# Altium schematic symbol library Gen_Devices.schlib: 226 symbols (part 1 of 3)
Pins are listed as number, name and electrical type; pins without a type are passive.

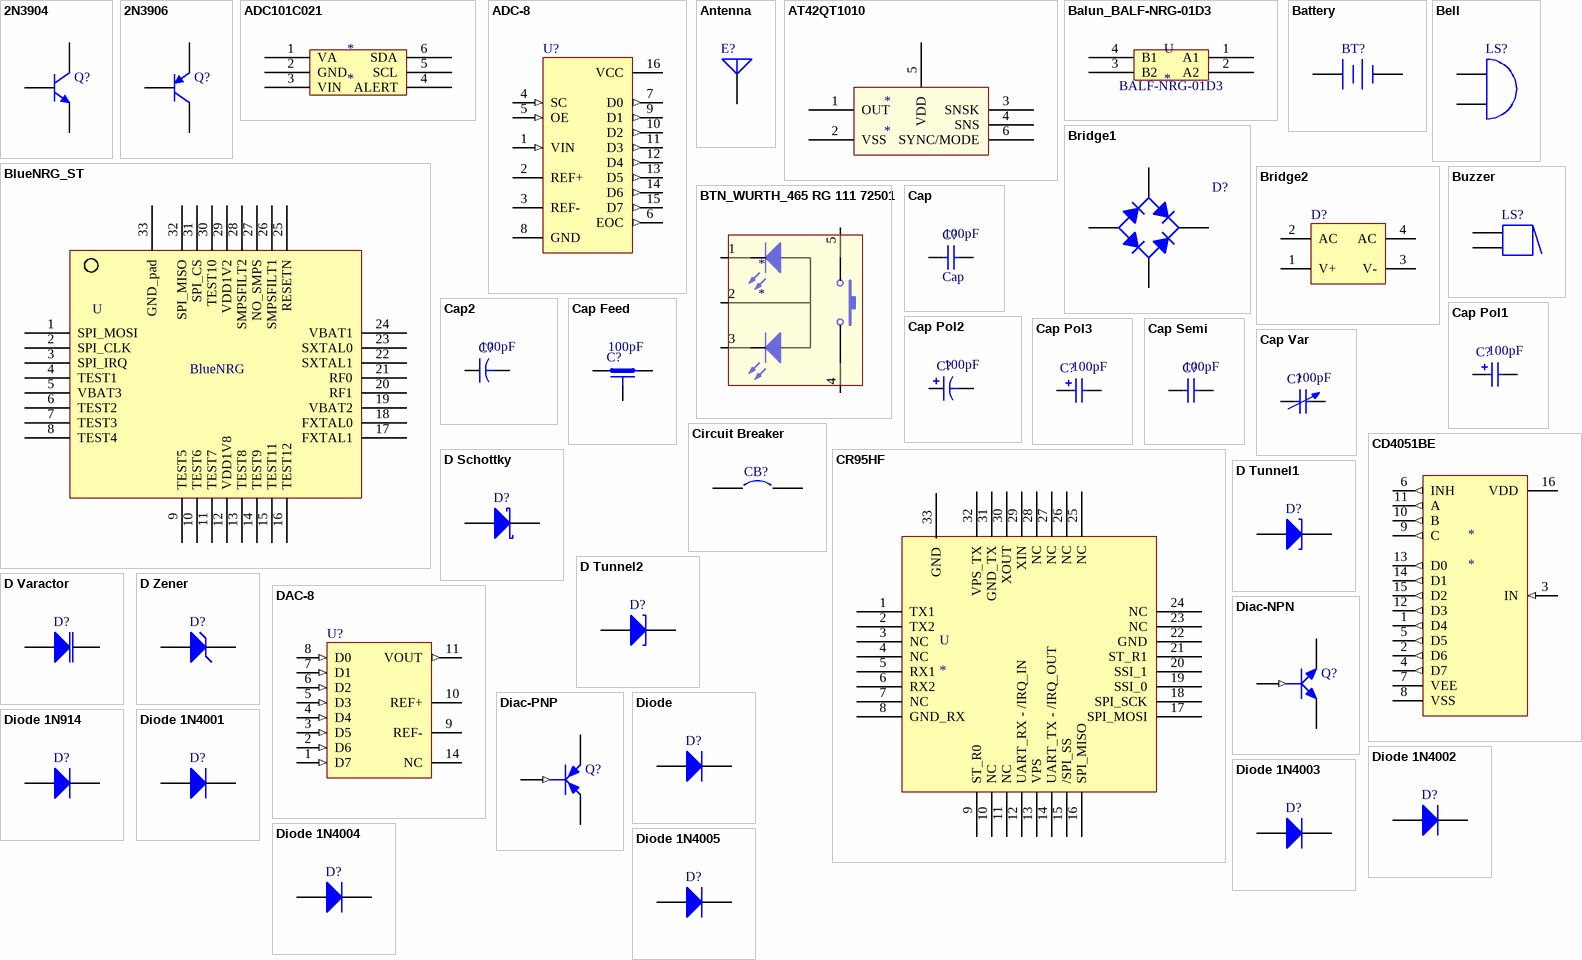
[diagram p0: symbols 2N3904 to Diode 1N4005]

## 2N3904
designator Q?
NPN General Purpose Amplifier; Published: 8-Jun-2000; LatestRevisionDate: 15-Jan-2003; LatestRevisionNote: PCB Footprint 'BCY-W3/D4.7' replaced; DatasheetVersion: 1997; PackageVersion: Sep-1998; PackageReference: TO-92A; Publisher: Altium Limited; PackageDescription: TO, Flat Index; 3 In-Line, Axial Leads; Body Dia. 4.5mm; Leads 0.51 x 0.48 mm (max); ComponentLink1Description: Manufacturer Link; ComponentLink1URL: http://www.fairchildsemi.com/; ComponentLink2Description: Datasheet; ComponentLink2URL: http://www.fairchildsemi.com/ds/2N%2F2N3904.pdf
footprint TO-92A (TO, Flat Index; 3 In-Line, Axial Leads; Body Dia. 4.5mm; Leads 0.51 x 0.48 mm (max))
simulation model 2N3904 (NPN)
signal-integrity model 2N3904
pins: 1 E, 2 B, 3 C

## 2N3906
designator Q?
PNP General Purpose Amplifier; Published: 8-Jun-2000; LatestRevisionDate: 15-Jan-2003; LatestRevisionNote: PCB Footprint 'BCY-W3/D4.7' replaced; DatasheetVersion: 1997; PackageVersion: Sep-1998; PackageReference: TO-92A; Publisher: Altium Limited; PackageDescription: TO, Flat Index; 3 In-Line, Axial Leads; Body Dia. 4.5mm; Leads 0.51 x 0.48 mm (max); ComponentLink1Description: Manufacturer Link; ComponentLink1URL: http://www.fairchildsemi.com/; ComponentLink2Description: Datasheet; ComponentLink2URL: http://www.fairchildsemi.com/ds/2N%2F2N3906.pdf
footprint TO-92A (TO, Flat Index; 3 In-Line, Axial Leads; Body Dia. 4.5mm; Leads 0.51 x 0.48 mm (max))
simulation model 2N3906 (PNP)
signal-integrity model 2N3906
pins: 1 E, 2 B, 3 C

## ADC101C021
designator *
footprint SOT23-6_N (SOT23, 6-Leads, Body 2.9x1.6mm, Pitch 0.95mm, Lead Span 2.7mm, IPC Medium Density)
pins: 1 VA, 2 GND, 3 VIN, 4 ALERT, 5 SCL, 6 SDA

## ADC-8
designator U?
Generic 8-Bit A/D Converter; Published: 8-Jun-2000; LatestRevisionDate: 29-May-2009; LatestRevisionNote: IPC-7351 Footprint Added.; PackageVersion: Mar-2002; PackageReference: SOT403-1; Publisher: Altium Limited; PackageDescription: 16-Pin Thin Small Outline Package 0.65 mm Pitch; Code_JEDEC: MO-153
footprint SOT403-1_N (TSOP, 16-Leads, Body 5x4.4mm, Pitch 0.65mm, IPC Medium Density)
footprint SOT403-1_L (TSOP, 16-Leads, Body 5x4.4mm, Pitch 0.65mm, IPC High Density)
footprint SOT403-1_M (TSOP, 16-Leads, Body 5x4.4mm, Pitch 0.65mm, IPC Low Density)
simulation model ADC8 (SIMCODE)
pins: 1 VIN (in), 2 REF+, 3 REF-, 4 SC (in), 5 OE (in), 6 EOC (out), 7 D0 (out), 8 GND (power), 9 D1 (out), 10 D2 (out), 11 D3 (out), 12 D4 (out), 13 D5 (out), 14 D6 (out), 15 D7 (out), 16 VCC (power)

## Antenna
designator E?
Generic Antenna; Published: 24-Mar-1999; LatestRevisionDate: 17-Jul-2002; LatestRevisionNote: Re-released for DXP Platform.; PackageReference: PIN1; Publisher: Altium Limited
footprint PIN1 (Generic Antenna; 1 Lead)
footprint ANT_ST_AN3359
pins: 1 A

## AT42QT1010
designator *
footprint SOT23-6_N (SOT23, 6-Leads, Body 2.9x1.6mm, Pitch 0.95mm, Lead Span 2.7mm, IPC Medium Density)
pins: 1 OUT, 2 VSS, 3 SNSK, 4 SNS, 5 VDD, 6 SYNC/MODE

## Balun_BALF-NRG-01D3
designator U
Balun; Ref.Manufacturer: BALF-NRG-01D3; Manufacturer: STMicroelectronics; Supplier: *; Price: *; Value: *; Ref.Supplier: *
footprint Flip-Chip 4 bump
pins: 1 A1, 2 A2, 3 B2, 4 B1

## Battery
designator BT?
Multicell Battery; Published: 24-Mar-1999; LatestRevisionDate: 17-Jul-2002; LatestRevisionNote: Re-released for DXP Platform.; PackageReference: BAT-2; Publisher: Altium Limited; PackageDescription: Battery; 2 Leads
footprint BAT-2 (Battery; 2 Leads)
pins: 1 +, 2 -

## Bell
designator LS?
Electrical Bell; Published: 24-Mar-1999; LatestRevisionDate: 17-Jul-2002; LatestRevisionNote: Re-released for DXP Platform.; PackageReference: PIN2; Publisher: Altium Limited
footprint PIN2 (Electrical Bell; 2 Leads)
pins: 1 A, 2 B

## BlueNRG_ST
designator U  (value not drawn)
BLE Transmitter; Manufacturer: STMicroelectronic; Ref.Manufacturer: BlueNRG; Supplier: *; Ref.Supplier: *; Price: *; Value: *
footprint QFN32_5x5
pins: 1 SPI_MOSI, 2 SPI_CLK, 3 SPI_IRQ, 4 TEST1, 5 VBAT3, 6 TEST2, 7 TEST3, 8 TEST4, 9 TEST5, 10 TEST6, 11 TEST7, 12 VDD1V8, 13 TEST8, 14 TEST9, 15 TEST11, 16 TEST12, 17 FXTAL1, 18 FXTAL0, 19 VBAT2, 20 RF1, 21 RF0, 22 SXTAL1, 23 SXTAL0, 24 VBAT1, 25 RESETN, 26 SMPSFILT1, 27 NO_SMPS, 28 SMPSFILT2, 29 VDD1V2, 30 TEST10, 31 SPI_CS, 32 SPI_MISO, 33 GND_pad

## Bridge1
designator D?
Full Wave Diode Bridge; Published: 8-Jun-2000; LatestRevisionDate: 29-May-2009; LatestRevisionNote: Sch pins A & K swapped.; DatasheetVersion: E2732B; PackageReference: D-38; Publisher: Altium Limited; PackageDescription: Bridge Rectifier; 4 Terminals; Body 9.4 x 9.4 mm (typ); Pitch 5.08 mm
footprint D-38 (Bridge Rectifier; 4 Terminals; Body 9.4 x 9.4 mm (typ); Pitch 5.08 mm)
simulation model BRIDGE (Spice Subcircuit)
pins: 1 K, 2 C, 3 A, 4 C

## Bridge2
designator D?
Diode Bridge; Published: 24-Mar-1999; LatestRevisionDate: 17-Jul-2002; LatestRevisionNote: Re-released for DXP Platform.; PackageReference: D-46_6A; Publisher: Altium Limited; PackageDescription: Bridge Rectifier; 4 Terminals; Body 16.8 x 16.8 mm (typ); Pitch 10.67 mm
footprint D-46_6A (Bridge Rectifier; 4 Terminals; Body 16.8 x 16.8 mm (typ); Pitch 10.67 mm)
simulation model BRIDGE (Spice Subcircuit)
pins: 1 V+, 2 AC, 3 V-, 4 AC

## BTN_WURTH_465 RG 111 72501
designator *
footprint BTN_WURTH_465 RG 111 72501
pins: 1 K, 2 A, 3 K, 4 2, 5 1

## Buzzer
designator LS?
Magnetic Transducer Buzzer; Published: 24-Mar-1999; LatestRevisionDate: 17-Dec-2003; LatestRevisionNote: Schematic revised, PCB Footprint replaced.; DatasheetVersion: 17-Dec-2003; PackageReference: ABSM-1574; Publisher: Altium Limited; PackageDescription: Magnetic Transducer Buzzer; ComponentLink1Description: Manufacturer Link; ComponentLink1URL: http://www.megastar.com/linecard/buzzmode/index.php
footprint ABSM-1574 (Magnetic Transducer Buzzer)
pins: 1, 1A, 2, 2A
1 alternate drawing of the same symbol

## Cap
designator C?  value 100pF
Capacitor; Price: *; Ref. Manufacturer: *; Ref. Supplier: *; Supplier: *; Manufacturer: *
simulation model CAP (Capacitor)
signal-integrity model Cap
footprint 0402[IMP]-CAP (Chip Resistor, Body 2.0x1.2mm, IPC Medium Density)
footprint 0603[IMP]-CAP (Chip Resistor, Body 2.0x1.2mm, IPC Medium Density)
footprint 0805[IMP]-CAP (Chip Resistor, Body 2.0x1.2mm, IPC Medium Density)
footprint 1206[IMP]-CAP (Chip Resistor, Body 2.0x1.2mm, IPC Medium Density)
pins: 1, 2

## Cap2
designator C?  value 100pF
Capacitor; Published: 23-Sep-2002; PackageReference: CAPR5-4X5; Publisher: Altium Limited; PackageDescription: Capacitor; 2 Leads
footprint CAPR5-4X5 (Capacitor; 2 Leads)
simulation model CAP (Capacitor)
signal-integrity model Cap
pins: 1, 2

## Cap Feed
designator C?  value 100pF
Feed-Through Capacitor; Note: Commonly used for bypassing high-frequency currents to chassis; Published: 24-Mar-1999; LatestRevisionDate: 17-Jul-2002; LatestRevisionNote: Re-released for DXP Platform.; PackageReference: VR4; Publisher: Altium Limited; PackageDescription: Variable Resistor, Thru-Hole; 3 Leads
footprint VR4 (Thru-Hole; 3 Leads)
signal-integrity model Cap Feed
pins: 1, 2, 3

## Cap Pol1
designator C?  value 100pF
Polarized Capacitor (Radial); Published: 8-Jun-2000; LatestRevisionDate: 17-Jul-2002; LatestRevisionNote: Re-released for DXP Platform.; PackageReference: RB7.6-15; Publisher: Altium Limited; PackageDescription: Polarized Capacitor (Radial); 2 Leads
footprint RB7.6-15 (Polarized Capacitor (Radial); 2 Leads)
simulation model CAP (Capacitor)
signal-integrity model Cap Pol
pins: 1, 2
1 alternate drawing of the same symbol

## Cap Pol2
designator C?  value 100pF
Polarized Capacitor (Axial); Published: 8-Jun-2000; LatestRevisionDate: 17-Jul-2002; LatestRevisionNote: Re-released for DXP Platform.; PackageReference: POLAR0.8; Publisher: Altium Limited; PackageDescription: Polarized Capacitor; 2 Leads
footprint POLAR0.8 (Polarized Capacitor; 2 Leads)
simulation model CAP (Capacitor)
signal-integrity model Cap Pol
pins: 1, 2
1 alternate drawing of the same symbol

## Cap Pol3
designator C?  value 100pF
Polarized Capacitor (Surface Mount); Published: 8-Jun-2000; LatestRevisionDate: 29-May-2009; LatestRevisionNote: IPC-7351 Footprint Added.; PackageReference: C0805; Publisher: Altium Limited; PackageDescription: Chip Capacitor
footprint C0805 (Chip Capacitor, Body 2.0x1.3mm, IPC High Density)
footprint 1812 (Chip Capacitor, Body 4.5x3.2mm, IPC High Density)
footprint 1825 (Chip Capacitor, Body 4.5x6.4mm, IPC High Density)
footprint C2225 (Chip Capacitor, Body 5.7x6.4mm, IPC High Density)
footprint 2220 (Chip Capacitor, Body 5.7x5.0mm, IPC High Density)
simulation model CAP (Capacitor)
signal-integrity model Cap Pol
pins: 1, 2
1 alternate drawing of the same symbol

## Cap Semi
designator C?  value 100pF
Capacitor (Semiconductor SIM Model); Published: 8-Jun-2000; LatestRevisionDate: 29-May-2009; LatestRevisionNote: IPC-7351 Footprint Added.; PackageReference: C1206; Publisher: Altium Limited; PackageDescription: Chip Capacitor
footprint C1206 (Chip Capacitor, Body 3.2x1.6mm, IPC High Density)
footprint 0402 (Chip Capacitor, Body 1.0x0.5mm, IPC High Density)
footprint C2512 (Chip Capacitor, Body 2.54x1.27mm, IPC High Density)
footprint 1608[0603] (Chip Capacitor, Body 1.6x0.8mm, IPC High Density)
footprint C1210 (Chip Capacitor, Body 3.2x2.5mm, IPC High Density)
simulation model CAP (Semiconductor Capacitor)
signal-integrity model Cap Semi
pins: 1, 2

## Cap Var
designator C?  value 100pF
Variable or Adjustable Capacitor; Published: 24-Mar-1999; LatestRevisionDate: 29-May-2009; LatestRevisionNote: IPC-7351 Footprint Added.; PackageReference: C1210; Publisher: Altium Limited; PackageDescription: Chip Capacitor 1210 Case Size; Code_JEITA: 1210; Code_IPC: CAPC3225
footprint C1210_N (Chip Capacitor, Body 3.2x2.5mm, IPC Medium Density)
footprint C1210_L (Chip Capacitor, Body 3.2x2.5mm, IPC High Density)
footprint C1210_M (Chip Capacitor, Body 3.2x2.5mm, IPC Low Density)
signal-integrity model Cap Var
pins: 1, 2

## CD4051BE
designator *
footprint DIP-16 (DIP; 16 Leads; Row Spacing 7.62 mm; Pitch 2.54 mm)
pins: 1 D4 (out), 2 D6 (out), 3 IN (in), 4 D7 (out), 5 D5 (out), 6 INH (out), 7 VEE (power), 8 VSS (power), 9 C (out), 10 B (out), 11 A (out), 12 D3 (out), 13 D0 (out), 14 D1 (out), 15 D2 (out), 16 VDD (power)

## Circuit Breaker
designator CB?
Circuit Breaker; Published: 24-Mar-1999; LatestRevisionDate: 17-Jul-2002; LatestRevisionNote: Re-released for DXP Platform.; PackageReference: SPST-2; Publisher: Altium Limited; PackageDescription: Switch; 2 Leads
footprint SPST-2 (Switch; 2 Leads)
pins: 1, 2

## CR95HF
designator U
Reader RFID; Manufacturer: ST; Ref. Manufacturer: CR95HF-VMD5T; Supplier: Rutronik; Price: 1.94€; Ref. Supplier: ICRFID1427
footprint VFQFPN-32lead
pins: 1 TX1, 2 TX2, 3 NC, 4 NC, 5 RX1, 6 RX2, 7 NC, 8 GND_RX, 9 ST_R0, 10 NC, 11 NC, 12 UART_RX - /IRQ_IN, 13 VPS, 14 UART_TX - /IRQ_OUT, 15 /SPI_SS, 16 SPI_MISO, 17 SPI_MOSI, 18 SPI_SCK, 19 SSI_0, 20 SSI_1, 21 ST_R1, 22 GND, 23 NC, 24 NC, 25 NC, 26 NC, 27 NC, 28 NC, 29 XIN, 30 XOUT, 31 GND_TX, 32 VPS_TX, 33 GND

## D Schottky
designator D?
Schottky Diode; Published: 8-Jun-2000; LatestRevisionDate: 17-Jul-2002; LatestRevisionNote: Re-released for DXP Platform.; PackageReference: SMB; Publisher: Altium Limited; PackageDescription: DO-214-AA/SMB; 2 C-Bend Leads; Body 5.3 x 3.6 mm, inc. leads (LxW); Code_JEDEC: DO-214-AA
footprint SMB (DO-214-AA/SMB; 2 C-Bend Leads; Body 5.3 x 3.6 mm, inc. leads (LxW))
simulation model SKYDIODE (Diode)
signal-integrity model D Schottky
pins: 1 A, 2 K

## D Tunnel1
designator D?
Tunnel Diode - RLC Model; Published: 8-Jun-2000; LatestRevisionDate: 17-Jul-2002; LatestRevisionNote: Re-released for DXP Platform.; PackageVersion: Feb-2002; PackageReference: 3.2X1.6X1.1; Publisher: Altium Limited; PackageDescription: SM LED; 2 Flat Leads
footprint 3.2X1.6X1.1 (SMT LED; 2 Flat Leads)
simulation model DTUNNEL1 (Spice Subcircuit)
signal-integrity model D Tunnel
pins: 1 A, 2 K

## D Tunnel2
designator D?
Tunnel Diode - Dependent Source Model; Published: 15-Apr-2002; LatestRevisionDate: 17-Jul-2002; LatestRevisionNote: Re-released for DXP Platform.; PackageReference: DIODE-0.4; Publisher: Altium Limited; PackageDescription: Diode, Thru-Hole; 2 Leads; 0.4 in Pin Spacing
footprint DIODE-0.4 (Diode, Thru-Hole; 2 Leads; 0.4 in Pin Spacing)
simulation model DTUNNEL2 (Spice Subcircuit)
signal-integrity model D Tunnel
pins: 1 A, 2 K

## D Varactor
designator D?
Variable Capacitance Diode; Note: Pin 2 is not connected and not drawn.; Published: 8-Jun-2000; LatestRevisionDate: 29-May-2009; LatestRevisionNote: IPC-7351 Footprint Added.; DatasheetVersion: Jan-1998; PackageVersion: 1996; PackageReference: SOT23A; Publisher: Altium Limited; PackageDescription: 3-Pin SOT-23 Package 0.95 mm Pitch, 2.3 mm Lead Span - Reverse Pinning; ComponentLink1Description: Manufacturer Link; ComponentLink1URL: http://www.zetex.com/
footprint SOT23_N (SOT23, 3-Leads, Body 2.9x1.3mm, Pitch 0.95mm, Lead Span 2.3mm - Reverse Pinning, IPC Medium Density)
footprint SOT23_L (SOT23, 3-Leads, Body 2.9x1.3mm, Pitch 0.95mm, Lead Span 2.3mm - Reverse Pinning, IPC High Density)
footprint SOT23_M (SOT23, 3-Leads, Body 2.9x1.3mm, Pitch 0.95mm, Lead Span 2.3mm - Reverse Pinning, IPC Low Density)
simulation model BBY31 (Diode)
signal-integrity model D Varactor
pins: 1 K, 3 A

## D Zener
designator D?
Zener Diode; Published: 8-Jun-2000; LatestRevisionDate: 17-Jul-2002; LatestRevisionNote: Re-released for DXP Platform.; PackageReference: DIODE-0.7; Publisher: Altium Limited; PackageDescription: Diode, Thru-Hole; 2 Leads; 0.7 in Pin Spacing
footprint DIODE-0.7 (Diode, Thru-Hole; 2 Leads; 0.7 in Pin Spacing)
simulation model ZENER (Diode)
signal-integrity model D Zener
footprint DIODE-0.4 (Diode, Thru-Hole; 2 Leads; 0.4 in Pin Spacing)
footprint DO-220AA (Chip Resistor, Body 2.0x1.2mm, IPC Medium Density)
pins: 1 A, 2 K

## DAC-8
designator U?
Generic 8-Bit D/A Converter; Published: 8-Jun-2000; LatestRevisionDate: 29-May-2009; LatestRevisionNote: IPC-7351 Footprint Added.; PackageVersion: Mar-2002; PackageReference: SOT402-1; Publisher: Altium Limited; PackageDescription: 14-Pin Thin Small Outline Package 0.65 mm Pitch; Code_JEDEC: MO-153
footprint SOT402-1_N (TSOP, 14-Leads, Body 5x4.4mm, Pitch 0.65mm, IPC Medium Density)
footprint SOT402-1_L (TSOP, 14-Leads, Body 5x4.4mm, Pitch 0.65mm, IPC High Density)
footprint SOT402-1_M (TSOP, 14-Leads, Body 5x4.4mm, Pitch 0.65mm, IPC Low Density)
simulation model DAC8 (SIMCODE)
pins: 1 D7 (in), 2 D6 (in), 3 D5 (in), 4 D4 (in), 5 D3 (in), 6 D2 (in), 7 D1 (in), 8 D0 (in), 9 REF-, 10 REF+, 11 VOUT (out), 12 GND (power) hidden to GND, 13 VCC (power) hidden to VCC, 14 NC

## Diac-NPN
designator Q?
DIAC; Published: 24-Mar-1999; LatestRevisionDate: 17-Jul-2002; LatestRevisionNote: Re-released for DXP Platform.; PackageReference: TO-262-AA; Publisher: Altium Limited; Code_JEDEC: TO-262-AA
footprint TO-262-AA (TO, Thru-Hole, Vertical, Heatsink Mounted; 3 In-Line Leads; Pitch 2.54 mm)
pins: 1 B (in), 2 C, 3 E

## Diac-PNP
designator Q?
DIAC; Published: 24-Mar-1999; LatestRevisionDate: 29-May-2009; LatestRevisionNote: IPC-7351 Footprint Added.; PackageVersion: Jul-2004; PackageReference: SOT89; Publisher: Altium Limited; PackageDescription: 3-Pin SOT-89 Package 1.5 mm Pitch, 4.1 mm Lead Span; Code_JEDEC: TO-243-AA
footprint SOT89M (SOT89, 3-Leads, Body 4.5x2.4 mm, Pitch 1.5mm, Lead Span 4.1mm, IPC Low Density)
footprint SOT89N (SOT89, 3-Leads, Body 4.5x2.4 mm, Pitch 1.5mm, Lead Span 4.1mm, IPC Medium Density)
footprint SOT89L (SOT89, 3-Leads, Body 4.5x2.4 mm, Pitch 1.5mm, Lead Span 4.1mm, IPC High Density)
pins: 1 B (in), 2 E, 3 C

## Diode
designator D?
Default Diode; Published: 8-Jun-2000; LatestRevisionDate: 17-Jul-2002; LatestRevisionNote: Re-released for DXP Platform.; PackageVersion: Sep-1996; PackageReference: SMC; Publisher: Altium Limited; PackageDescription: DO-214-AB/SMC; 2 C-Bend Leads; Body 7.9 x 5.9 mm, inc. leads (LxW); Code_JEDEC: DO-214-AB
footprint SMC (DO-214-AB/SMC; 2 C-Bend Leads; Body 7.9 x 5.9 mm, inc. leads (LxW))
simulation model DIODE (Diode)
signal-integrity model Diode
pins: 1 A, 2 K

## Diode 1N914
designator D?
High Conductance Fast Diode; Published: 8-Jun-2000; LatestRevisionDate: 17-Jul-2002; LatestRevisionNote: Re-released for DXP Platform.; DatasheetVersion: 1997; PackageReference: DO-35; Publisher: Altium Limited; PackageDescription: Diode, Axial; Body 3.8 x 1.9 mm (LxDia. max), Lead Dia. 0.53 mm (max); Code_JEDEC: DO-204-AH; ComponentLink1Description: Manufacturer Link; ComponentLink1URL: http://www.fairchildsemi.com/; ComponentLink2Description: Datasheet; ComponentLink2URL: http://www.fairchildsemi.com/ds/1N%2F1N4448.pdf
footprint DO-35 (Diode, Axial; Body 3.8 x 1.9 mm (LxDia. max), Lead Dia. 0.53 mm (max))
simulation model 1N914 (DIODE)
signal-integrity model 1N914
pins: 1 A, 2 K

## Diode 1N4001
designator D?
1 Amp General Purpose Rectifier; Published: 8-Jun-2000; LatestRevisionDate: 17-Jul-2002; LatestRevisionNote: Re-released for DXP Platform.; DatasheetVersion: 1998; PackageVersion: Aug-1999; PackageReference: DO-41; Publisher: Altium Limited; PackageDescription: Diode, Axial; Body 5.2 x 2.7 mm (LxDia. max), Lead Dia. 0.86 mm (max); Code_JEDEC: DO-204-AL; ComponentLink1Description: Manufacturer Link; ComponentLink1URL: http://www.fairchildsemi.com/; ComponentLink2Description: Datasheet; ComponentLink2URL: http://www.fairchildsemi.com/ds/1N%2F1N4001.pdf
footprint DO-41 (Diode, Axial; Body 5.2 x 2.7 mm (LxDia. max), Lead Dia. 0.86 mm (max))
simulation model 1N4001 (DIODE)
signal-integrity model 1N4001
pins: 1 A, 2 K

## Diode 1N4002
designator D?
1 Amp General Purpose Rectifier; Published: 8-Jun-2000; LatestRevisionDate: 17-Jul-2002; LatestRevisionNote: Re-released for DXP Platform.; DatasheetVersion: 1998; PackageVersion: Aug-1999; PackageReference: DO-41; Publisher: Altium Limited; PackageDescription: Diode, Axial; Body 5.2 x 2.7 mm (LxDia. max), Lead Dia. 0.86 mm (max); Code_JEDEC: DO-204-AL; ComponentLink1Description: Manufacturer Link; ComponentLink1URL: http://www.fairchildsemi.com/; ComponentLink2Description: Datasheet; ComponentLink2URL: http://www.fairchildsemi.com/ds/1N%2F1N4001.pdf
footprint DO-41 (Diode, Axial; Body 5.2 x 2.7 mm (LxDia. max), Lead Dia. 0.86 mm (max))
simulation model 1N4002 (DIODE)
signal-integrity model 1N4002
pins: 1 A, 2 K

## Diode 1N4003
designator D?
1 Amp General Purpose Rectifier; Published: 8-Jun-2000; LatestRevisionDate: 17-Jul-2002; LatestRevisionNote: Re-released for DXP Platform.; DatasheetVersion: 1998; PackageVersion: Aug-1999; PackageReference: DO-41; Publisher: Altium Limited; PackageDescription: Diode, Axial; Body 5.2 x 2.7 mm (LxDia. max), Lead Dia. 0.86 mm (max); Code_JEDEC: DO-204-AL; ComponentLink1Description: Manufacturer Link; ComponentLink1URL: http://www.fairchildsemi.com/; ComponentLink2Description: Datasheet; ComponentLink2URL: http://www.fairchildsemi.com/ds/1N%2F1N4001.pdf
footprint DO-41 (Diode, Axial; Body 5.2 x 2.7 mm (LxDia. max), Lead Dia. 0.86 mm (max))
simulation model 1N4003 (DIODE)
signal-integrity model 1N4003
pins: 1 A, 2 K

## Diode 1N4004
designator D?
1 Amp General Purpose Rectifier; Published: 8-Jun-2000; LatestRevisionDate: 17-Jul-2002; LatestRevisionNote: Re-released for DXP Platform.; DatasheetVersion: 1998; PackageVersion: Aug-1999; PackageReference: DO-41; Publisher: Altium Limited; PackageDescription: Diode, Axial; Body 5.2 x 2.7 mm (LxDia. max), Lead Dia. 0.86 mm (max); Code_JEDEC: DO-204-AL; ComponentLink1Description: Manufacturer Link; ComponentLink1URL: http://www.fairchildsemi.com/; ComponentLink2Description: Datasheet; ComponentLink2URL: http://www.fairchildsemi.com/ds/1N%2F1N4001.pdf
footprint DO-41 (Diode, Axial; Body 5.2 x 2.7 mm (LxDia. max), Lead Dia. 0.86 mm (max))
simulation model 1N4004 (DIODE)
signal-integrity model 1N4004
pins: 1 A, 2 K

## Diode 1N4005
designator D?
1 Amp General Purpose Rectifier; Published: 8-Jun-2000; LatestRevisionDate: 17-Jul-2002; LatestRevisionNote: Re-released for DXP Platform.; DatasheetVersion: 1998; PackageVersion: Aug-1999; PackageReference: DO-41; Publisher: Altium Limited; PackageDescription: Diode, Axial; Body 5.2 x 2.7 mm (LxDia. max), Lead Dia. 0.86 mm (max); Code_JEDEC: DO-204-AL; ComponentLink1Description: Manufacturer Link; ComponentLink1URL: http://www.fairchildsemi.com/; ComponentLink2Description: Datasheet; ComponentLink2URL: http://www.fairchildsemi.com/ds/1N%2F1N4001.pdf
footprint DO-41 (Diode, Axial; Body 5.2 x 2.7 mm (LxDia. max), Lead Dia. 0.86 mm (max))
simulation model 1N4005 (DIODE)
signal-integrity model 1N4005
pins: 1 A, 2 K

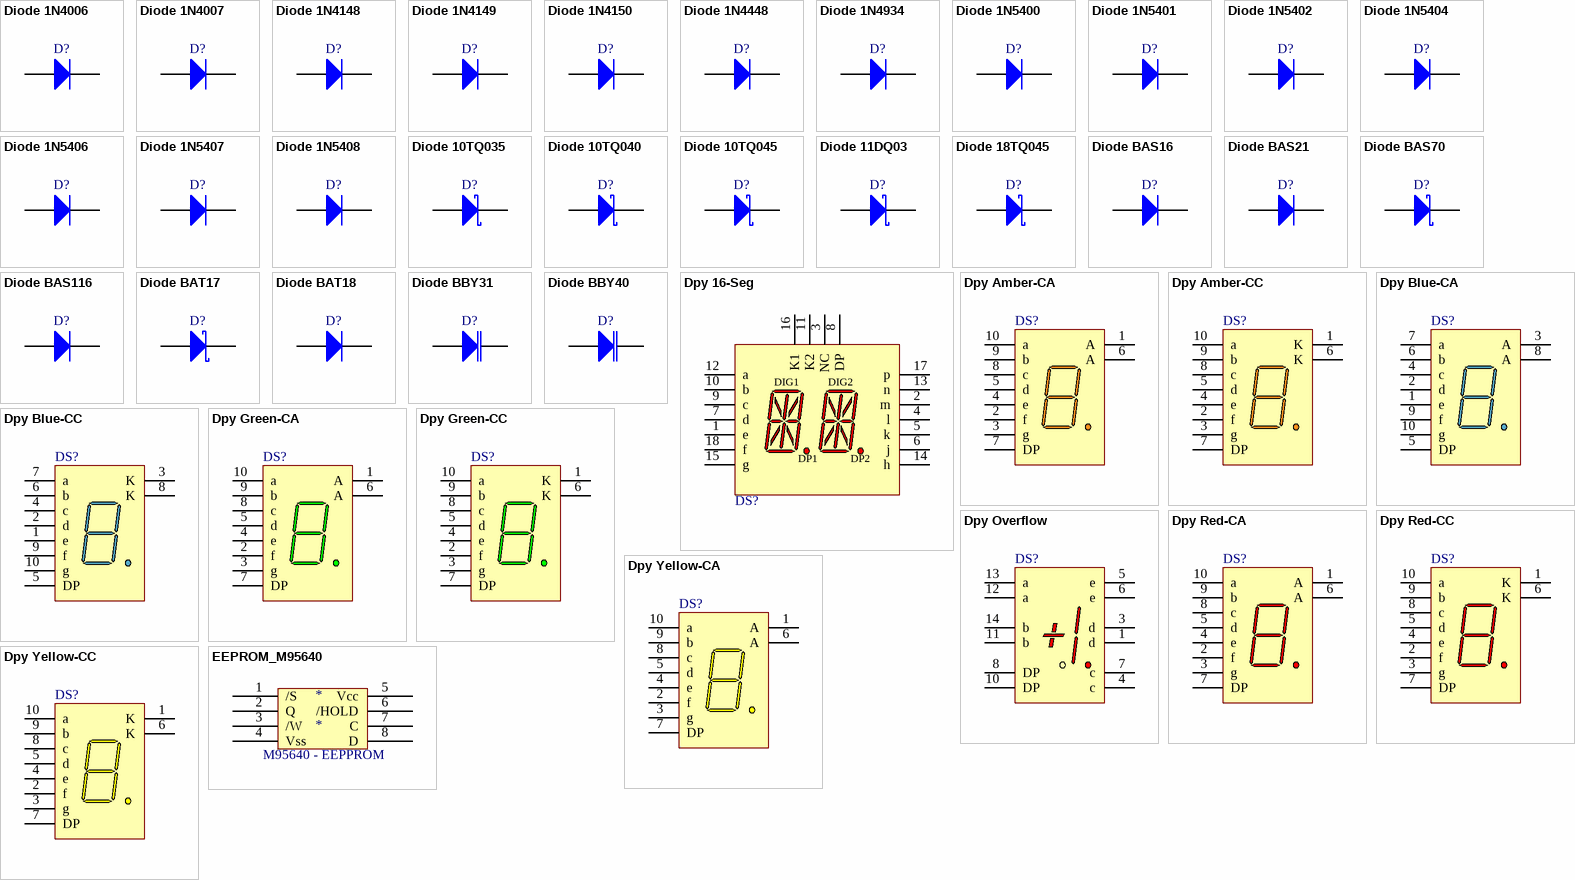
[diagram p1: symbols Diode 1N4006 to EEPROM_M95640]

## Diode 1N4006
designator D?
1 Amp General Purpose Rectifier; Published: 8-Jun-2000; LatestRevisionDate: 17-Jul-2002; LatestRevisionNote: Re-released for DXP Platform.; DatasheetVersion: 1998; PackageVersion: Aug-1999; PackageReference: DO-41; Publisher: Altium Limited; PackageDescription: Diode, Axial; Body 5.2 x 2.7 mm (LxDia. max), Lead Dia. 0.86 mm (max); Code_JEDEC: DO-204-AL; ComponentLink1Description: Manufacturer Link; ComponentLink1URL: http://www.fairchildsemi.com/; ComponentLink2Description: Datasheet; ComponentLink2URL: http://www.fairchildsemi.com/ds/1N%2F1N4001.pdf
footprint DO-41 (Diode, Axial; Body 5.2 x 2.7 mm (LxDia. max), Lead Dia. 0.86 mm (max))
simulation model 1N4006 (DIODE)
signal-integrity model 1N4006
pins: 1 A, 2 K

## Diode 1N4007
designator D?
1 Amp General Purpose Rectifier; Published: 8-Jun-2000; LatestRevisionDate: 17-Jul-2002; LatestRevisionNote: Re-released for DXP Platform.; DatasheetVersion: 1998; PackageVersion: Aug-1999; PackageReference: DO-41; Publisher: Altium Limited; PackageDescription: Diode, Axial; Body 5.2 x 2.7 mm (LxDia. max), Lead Dia. 0.86 mm (max); Code_JEDEC: DO-204-AL; ComponentLink1Description: Manufacturer Link; ComponentLink1URL: http://www.fairchildsemi.com/; ComponentLink2Description: Datasheet; ComponentLink2URL: http://www.fairchildsemi.com/ds/1N%2F1N4001.pdf
footprint DO-41 (Diode, Axial; Body 5.2 x 2.7 mm (LxDia. max), Lead Dia. 0.86 mm (max))
simulation model 1N4007 (DIODE)
signal-integrity model 1N4007
pins: 1 A, 2 K

## Diode 1N4148
designator D?
High Conductance Fast Diode; Published: 8-Jun-2000; LatestRevisionDate: 17-Jul-2002; LatestRevisionNote: Re-released for DXP Platform.; DatasheetVersion: 1997; PackageReference: DO-35; Publisher: Altium Limited; PackageDescription: Diode, Axial; Body 3.8 x 1.9 mm (LxDia. max), Lead Dia. 0.53 mm (max); Code_JEDEC: DO-204-AH; ComponentLink1Description: Manufacturer Link; ComponentLink1URL: http://www.fairchildsemi.com/; ComponentLink2Description: Datasheet; ComponentLink2URL: http://www.fairchildsemi.com/ds/1N%2F1N4148.pdf
footprint DO-35 (Diode, Axial; Body 3.8 x 1.9 mm (LxDia. max), Lead Dia. 0.53 mm (max))
simulation model 1N4148 (DIODE)
signal-integrity model 1N4148
pins: 1 A, 2 K

## Diode 1N4149
designator D?
Computer Diode; Published: 8-Jun-2000; LatestRevisionDate: 17-Jul-2002; LatestRevisionNote: Re-released for DXP Platform.; DatasheetVersion: 1989; PackageVersion: 1989; PackageReference: DO-35A; Publisher: Altium Limited; PackageDescription: Diode, Axial; Body 4.6 x 1.9 mm (LxDia. max), Lead Dia. 0.53 mm (max); Code_JEDEC: DO-204-AH; ComponentLink1Description: Manufacturer Link; ComponentLink1URL: http://www.national.com/
footprint DO-35A (Diode, Axial; Body 4.6 x 1.9 mm (LxDia. max), Lead Dia. 0.53 mm (max))
simulation model 1N4149 (DIODE)
pins: 1 A, 2 K

## Diode 1N4150
designator D?
High Conductance Ultra Fast Diode; Published: 8-Jun-2000; LatestRevisionDate: 17-Jul-2002; LatestRevisionNote: Re-released for DXP Platform.; DatasheetVersion: 1997; PackageReference: DO-35; Publisher: Altium Limited; PackageDescription: Diode, Axial; Body 3.8 x 1.9 mm (LxDia. max), Lead Dia. 0.53 mm (max); Code_JEDEC: DO-204-AH; ComponentLink1Description: Manufacturer Link; ComponentLink1URL: http://www.fairchildsemi.com/
footprint DO-35 (Diode, Axial; Body 3.8 x 1.9 mm (LxDia. max), Lead Dia. 0.53 mm (max))
simulation model 1N4150 (DIODE)
signal-integrity model 1N4150
pins: 1 A, 2 K

## Diode 1N4448
designator D?
High Conductance Fast Diode; Published: 8-Jun-2000; LatestRevisionDate: 17-Jul-2002; LatestRevisionNote: Re-released for DXP Platform.; DatasheetVersion: 1997; PackageReference: DO-35; Publisher: Altium Limited; PackageDescription: Diode, Axial; Body 3.8 x 1.9 mm (LxDia. max), Lead Dia. 0.53 mm (max); Code_JEDEC: DO-204-AH; ComponentLink1Description: Manufacturer Link; ComponentLink1URL: http://www.fairchildsemi.com/; ComponentLink2Description: Datasheet; ComponentLink2URL: http://www.fairchildsemi.com/ds/1N%2F1N4448.pdf
footprint DO-35 (Diode, Axial; Body 3.8 x 1.9 mm (LxDia. max), Lead Dia. 0.53 mm (max))
simulation model 1N4448 (DIODE)
signal-integrity model 1N4448
pins: 1 A, 2 K

## Diode 1N4934
designator D?
1 Amp Fast Recovery Rectifier; Published: 8-Jun-2000; LatestRevisionDate: 17-Jul-2002; LatestRevisionNote: Re-released for DXP Platform.; DatasheetVersion: 1999; PackageVersion: Aug-1999; PackageReference: DO-41; Publisher: Altium Limited; PackageDescription: Diode, Axial; Body 5.2 x 2.7 mm (LxDia. max), Lead Dia. 0.86 mm (max); Code_JEDEC: DO-204-AL; ComponentLink1Description: Manufacturer Link; ComponentLink1URL: http://www.fairchildsemi.com/; ComponentLink2Description: Datasheet; ComponentLink2URL: http://www.fairchildsemi.com/ds/1N%2F1N4934.pdf
footprint DO-41 (Diode, Axial; Body 5.2 x 2.7 mm (LxDia. max), Lead Dia. 0.86 mm (max))
simulation model 1N4934 (DIODE)
signal-integrity model 1N4934
pins: 1 A, 2 K

## Diode 1N5400
designator D?
3 Amp General Purpose Rectifier; Published: 8-Jun-2000; LatestRevisionDate: 17-Jul-2002; LatestRevisionNote: Re-released for DXP Platform.; DatasheetVersion: 1998; PackageVersion: Aug-1999; PackageReference: DO-201AD; Publisher: Altium Limited; PackageDescription: Diode, Axial; Body 9.5 x 5.6 mm (LxDia. max), Lead Dia. 1.32 mm (max); ComponentLink1Description: Manufacturer Link; ComponentLink1URL: http://www.fairchildsemi.com/; ComponentLink2Description: Datasheet; ComponentLink2URL: http://www.fairchildsemi.com/ds/1N%2F1N5400.pdf
footprint DO-201AD (Diode, Axial; Body 9.5 x 5.6 mm (LxDia. max), Lead Dia. 1.32 mm (max))
simulation model 1N5400 (DIODE)
signal-integrity model 1N5400
pins: 1 A, 2 K

## Diode 1N5401
designator D?
3 Amp General Purpose Rectifier; Published: 8-Jun-2000; LatestRevisionDate: 17-Jul-2002; LatestRevisionNote: Re-released for DXP Platform.; DatasheetVersion: 1998; PackageVersion: Aug-1999; PackageReference: DO-201AD; Publisher: Altium Limited; PackageDescription: Diode, Axial; Body 9.5 x 5.6 mm (LxDia. max), Lead Dia. 1.32 mm (max); ComponentLink1Description: Manufacturer Link; ComponentLink1URL: http://www.fairchildsemi.com/; ComponentLink2Description: Datasheet; ComponentLink2URL: http://www.fairchildsemi.com/ds/1N%2F1N5400.pdf
footprint DO-201AD (Diode, Axial; Body 9.5 x 5.6 mm (LxDia. max), Lead Dia. 1.32 mm (max))
simulation model 1N5401 (DIODE)
signal-integrity model 1N5401
pins: 1 A, 2 K

## Diode 1N5402
designator D?
3 Amp General Purpose Rectifier; Published: 8-Jun-2000; LatestRevisionDate: 17-Jul-2002; LatestRevisionNote: Re-released for DXP Platform.; DatasheetVersion: 1998; PackageVersion: Aug-1999; PackageReference: DO-201AD; Publisher: Altium Limited; PackageDescription: Diode, Axial; Body 9.5 x 5.6 mm (LxDia. max), Lead Dia. 1.32 mm (max); ComponentLink1Description: Manufacturer Link; ComponentLink1URL: http://www.fairchildsemi.com/; ComponentLink2Description: Datasheet; ComponentLink2URL: http://www.fairchildsemi.com/ds/1N%2F1N5400.pdf
footprint DO-201AD (Diode, Axial; Body 9.5 x 5.6 mm (LxDia. max), Lead Dia. 1.32 mm (max))
simulation model 1N5402 (DIODE)
signal-integrity model 1N5402
pins: 1 A, 2 K

## Diode 1N5404
designator D?
3 Amp General Purpose Rectifier; Published: 8-Jun-2000; LatestRevisionDate: 17-Jul-2002; LatestRevisionNote: Re-released for DXP Platform.; DatasheetVersion: 1998; PackageVersion: Aug-1999; PackageReference: DO-201AD; Publisher: Altium Limited; PackageDescription: Diode, Axial; Body 9.5 x 5.6 mm (LxDia. max), Lead Dia. 1.32 mm (max); ComponentLink1Description: Manufacturer Link; ComponentLink1URL: http://www.fairchildsemi.com/; ComponentLink2Description: Datasheet; ComponentLink2URL: http://www.fairchildsemi.com/ds/1N%2F1N5400.pdf
footprint DO-201AD (Diode, Axial; Body 9.5 x 5.6 mm (LxDia. max), Lead Dia. 1.32 mm (max))
simulation model 1N5404 (DIODE)
signal-integrity model 1N5404
pins: 1 A, 2 K

## Diode 1N5406
designator D?
3 Amp General Purpose Rectifier; Published: 8-Jun-2000; LatestRevisionDate: 17-Jul-2002; LatestRevisionNote: Re-released for DXP Platform.; DatasheetVersion: 1998; PackageVersion: Aug-1999; PackageReference: DO-201AD; Publisher: Altium Limited; PackageDescription: Diode, Axial; Body 9.5 x 5.6 mm (LxDia. max), Lead Dia. 1.32 mm (max); ComponentLink1Description: Manufacturer Link; ComponentLink1URL: http://www.fairchildsemi.com/; ComponentLink2Description: Datasheet; ComponentLink2URL: http://www.fairchildsemi.com/ds/1N%2F1N5400.pdf
footprint DO-201AD (Diode, Axial; Body 9.5 x 5.6 mm (LxDia. max), Lead Dia. 1.32 mm (max))
simulation model 1N5406 (DIODE)
signal-integrity model 1N5406
pins: 1 A, 2 K

## Diode 1N5407
designator D?
3 Amp Medium Power Silicon Rectifier Diode; Published: 8-Jun-2000; LatestRevisionDate: 17-Jul-2002; LatestRevisionNote: Re-released for DXP Platform.; DatasheetVersion: Aug-1984; PackageReference: DO-201AD; Publisher: Altium Limited; PackageDescription: Diode, Axial; Body 9.5 x 5.3 mm (LxDia. max), Lead Dia. 1.32 mm (max); ComponentLink1Description: Manufacturer Link; ComponentLink1URL: http://www.irf.com/
footprint DO-201AD (Diode, Axial; Body 9.5 x 5.3 mm (LxDia. max), Lead Dia. 1.32 mm (max))
simulation model 1N5407 (DIODE)
signal-integrity model 1N5407
pins: 1 A, 2 K

## Diode 1N5408
designator D?
3 Amp Medium Power Silicon Rectifier Diode; Published: 8-Jun-2000; LatestRevisionDate: 17-Jul-2002; LatestRevisionNote: Re-released for DXP Platform.; DatasheetVersion: Aug-1984; PackageReference: DO-201AD; Publisher: Altium Limited; PackageDescription: Diode, Axial; Body 9.5 x 5.3 mm (LxDia. max), Lead Dia. 1.32 mm (max); ComponentLink1Description: Manufacturer Link; ComponentLink1URL: http://www.irf.com/
footprint DO-201AD (Diode, Axial; Body 9.5 x 5.3 mm (LxDia. max), Lead Dia. 1.32 mm (max))
simulation model 1N5408 (DIODE)
signal-integrity model 1N5408
pins: 1 A, 2 K

## Diode 10TQ035
designator D?
Schottky Rectifier; Note: Terminal 2 is the TAB and is electrically connected to the cathode; Published: 8-Jun-2000; LatestRevisionDate: 17-Jul-2002; LatestRevisionNote: Re-released for DXP Platform.; DatasheetVersion: PD-2.057B; PackageVersion: Feb-1998; PackageReference: TO-220AC; Publisher: Altium Limited; PackageDescription: TO, Thru-Hole, Vertical, Heatsink Mounted; 3 In-Line Leads (1 Absent); Pitch 2.54 mm; ComponentLink1Description: Manufacturer Link; ComponentLink1URL: http://www.irf.com/; ComponentLink2Description: Datasheet; ComponentLink2URL: http://www.irf.com/product-info/datasheets/data/10tq.pdf
footprint TO-220AC (TO, Thru-Hole, Vertical, Heatsink Mounted; 3 In-Line Leads (1 Absent); Pitch 2.54 mm)
simulation model 10TQ035 (DIODE)
pins: 1 K, 3 A

## Diode 10TQ040
designator D?
Schottky Rectifier; Note: Terminal 2 is the TAB and is electrically connected to the cathode; Published: 8-Jun-2000; LatestRevisionDate: 17-Jul-2002; LatestRevisionNote: Re-released for DXP Platform.; DatasheetVersion: PD-2.057B; PackageVersion: Feb-1998; PackageReference: TO-220AC; Publisher: Altium Limited; PackageDescription: TO, Thru-Hole, Vertical, Heatsink Mounted; 3 In-Line Leads (1 Absent); Pitch 2.54 mm; ComponentLink1Description: Manufacturer Link; ComponentLink1URL: http://www.irf.com/
footprint TO-220AC (TO, Thru-Hole, Vertical, Heatsink Mounted; 3 In-Line Leads (1 Absent); Pitch 2.54 mm)
simulation model 10TQ040 (DIODE)
pins: 1 K, 3 A

## Diode 10TQ045
designator D?
Schottky Rectifier; Note: Terminal 2 is the TAB and is electrically connected to the cathode; Published: 8-Jun-2000; LatestRevisionDate: 17-Jul-2002; LatestRevisionNote: Re-released for DXP Platform.; DatasheetVersion: PD-2.057B; PackageVersion: Feb-1998; PackageReference: TO-220AC; Publisher: Altium Limited; PackageDescription: TO, Thru-Hole, Vertical, Heatsink Mounted; 3 In-Line Leads (1 Absent); Pitch 2.54 mm; ComponentLink1Description: Manufacturer Link; ComponentLink1URL: http://www.irf.com/; ComponentLink2Description: Datasheet; ComponentLink2URL: http://www.irf.com/product-info/datasheets/data/10tq.pdf
footprint TO-220AC (TO, Thru-Hole, Vertical, Heatsink Mounted; 3 In-Line Leads (1 Absent); Pitch 2.54 mm)
simulation model 10TQ045 (DIODE)
pins: 1 K, 3 A

## Diode 11DQ03
designator D?
Schottky Rectifier; Published: 8-Jun-2000; LatestRevisionDate: 17-Jul-2002; LatestRevisionNote: Re-released for DXP Platform.; DatasheetVersion: Dec-1997; PackageReference: DO-204AL; Publisher: Altium Limited; PackageDescription: Diode, Axial; Body 5.2 x 2.7 mm (LxDia. max), Lead Dia. 0.86 mm (max); Code_JEDEC: DO-204-AL; ComponentLink1Description: Manufacturer Link; ComponentLink1URL: http://www.irf.com/; ComponentLink2Description: Datasheet; ComponentLink2URL: http://www.irf.com/product-info/datasheets/data/11dq03.pdf
footprint DO-204AL (Diode, Axial; Body 5.2 x 2.7 mm (LxDia. max), Lead Dia. 0.86 mm (max))
simulation model 11DQ03 (DIODE)
pins: 1 A, 2 K

## Diode 18TQ045
designator D?
Schottky Rectifier; Note: Terminal 2 is the TAB and is electrically connected to the cathode; Published: 8-Jun-2000; LatestRevisionDate: 17-Jul-2002; LatestRevisionNote: Re-released for DXP Platform.; DatasheetVersion: Dec-1997; PackageVersion: Feb-1998; PackageReference: TO-220AC; Publisher: Altium Limited; PackageDescription: TO, Thru-Hole, Vertical, Heatsink Mounted; 3 In-Line Leads (1 Absent); Pitch 2.54 mm; ComponentLink1Description: Manufacturer Link; ComponentLink1URL: http://www.irf.com/; ComponentLink2Description: Datasheet; ComponentLink2URL: http://www.irf.com/product-info/datasheets/data/18tq.pdf
footprint TO-220AC (TO, Thru-Hole, Vertical, Heatsink Mounted; 3 In-Line Leads (1 Absent); Pitch 2.54 mm)
simulation model 18TQ045 (DIODE)
pins: 1 K, 3 A

## Diode BAS16
designator D?
Silicon Switching Diode for High-Speed Switching; Note: Pin 2 is not connected and not drawn.; Published: 21-Mar-2003; LatestRevisionDate: 29-May-2009; LatestRevisionNote: IPC-7351 Footprint Added.; DatasheetVersion: Oct-1999; PackageVersion: Sep-2001; PackageReference: SOT-23; Publisher: Altium Limited; PackageDescription: 3-Pin SOT-23 Package 0.95 mm Pitch, 2.5 mm Lead Span; ComponentLink1Description: Manufacturer Link; ComponentLink1URL: http://www.infineon.com/; ComponentLink2Description: Datasheet; ComponentLink2URL: http://www.infineon.com/upload/Document/cmc_upload/documents/012/5331/bas16series.pdf
footprint SOT-23_N (SOT23, 3-Leads, Body 2.9x1.3mm, Pitch 0.95mm, Lead Span 2.5mm, IPC Medium Density)
footprint SOT-23_L (SOT23, 3-Leads, Body 2.9x1.3mm, Pitch 0.95mm, Lead Span 2.5mm, IPC High Density)
footprint SOT-23_M (SOT23, 3-Leads, Body 2.9x1.3mm, Pitch 0.95mm, Lead Span 2.5mm, IPC Low Density)
simulation model BAS16 (SUBCKT)
pins: 1 A, 3 K

## Diode BAS21
designator D?
Silicon Switching Diode for High-Speed, High-Voltage Switching; Note: Pin 2 is not connected and not drawn.; Published: 21-Mar-2003; LatestRevisionDate: 29-May-2009; LatestRevisionNote: IPC-7351 Footprint Added.; DatasheetVersion: Oct-1999; PackageVersion: Sep-2001; PackageReference: SOT-23; Publisher: Altium Limited; PackageDescription: 3-Pin SOT-23 Package 0.95 mm Pitch, 2.5 mm Lead Span; ComponentLink1Description: Manufacturer Link; ComponentLink1URL: http://www.infineon.com/; ComponentLink2Description: Datasheet; ComponentLink2URL: http://www.infineon.com/upload/Document/cmc_upload/documents/080/812/bas21series.pdf
footprint SOT-23_N (SOT23, 3-Leads, Body 2.9x1.3mm, Pitch 0.95mm, Lead Span 2.5mm, IPC Medium Density)
footprint SOT-23_L (SOT23, 3-Leads, Body 2.9x1.3mm, Pitch 0.95mm, Lead Span 2.5mm, IPC High Density)
footprint SOT-23_M (SOT23, 3-Leads, Body 2.9x1.3mm, Pitch 0.95mm, Lead Span 2.5mm, IPC Low Density)
simulation model BAS21 (DIODE)
pins: 1 A, 3 K

## Diode BAS70
designator D?
Silicon AF Schottky Diode for High-Speed Switching; Note: Pin 2 is not connected and not drawn.; Published: 21-Mar-2003; LatestRevisionDate: 29-May-2009; LatestRevisionNote: IPC-7351 Footprint Added.; DatasheetVersion: Oct-1999; PackageVersion: Sep-2001; PackageReference: SOT-23; Publisher: Altium Limited; PackageDescription: 3-Pin SOT-23 Package 0.95 mm Pitch, 2.5 mm Lead Span; ComponentLink1Description: Manufacturer Link; ComponentLink1URL: http://www.infineon.com/; ComponentLink2Description: Datasheet; ComponentLink2URL: http://www.infineon.com/upload/Document/cmc_upload/documents/009/382/bas40_bas140series_1.pdf
footprint SOT-23_N (SOT23, 3-Leads, Body 2.9x1.3mm, Pitch 0.95mm, Lead Span 2.5mm, IPC Medium Density)
footprint SOT-23_L (SOT23, 3-Leads, Body 2.9x1.3mm, Pitch 0.95mm, Lead Span 2.5mm, IPC High Density)
footprint SOT-23_M (SOT23, 3-Leads, Body 2.9x1.3mm, Pitch 0.95mm, Lead Span 2.5mm, IPC Low Density)
simulation model BAS70 (DIODE)
pins: 1 A, 3 K

## Diode BAS116
designator D?
Silicon Low Leakage Diode; Note: Pin 2 is not connected and not drawn.; Published: 21-Mar-2003; LatestRevisionDate: 29-May-2009; LatestRevisionNote: IPC-7351 Footprint Added.; DatasheetVersion: Oct-1999; PackageVersion: Sep-2001; PackageReference: SOT-23; Publisher: Altium Limited; PackageDescription: 3-Pin SOT-23 Package 0.95 mm Pitch, 2.5 mm Lead Span; ComponentLink1Description: Manufacturer Link; ComponentLink1URL: http://www.infineon.com/; ComponentLink2Description: Datasheet; ComponentLink2URL: http://www.infineon.com/upload/Document/cmc_upload/documents/080/656/bas116series.pdf
footprint SOT-23_N (SOT23, 3-Leads, Body 2.9x1.3mm, Pitch 0.95mm, Lead Span 2.5mm, IPC Medium Density)
footprint SOT-23_L (SOT23, 3-Leads, Body 2.9x1.3mm, Pitch 0.95mm, Lead Span 2.5mm, IPC High Density)
footprint SOT-23_M (SOT23, 3-Leads, Body 2.9x1.3mm, Pitch 0.95mm, Lead Span 2.5mm, IPC Low Density)
simulation model BAS116 (DIODE)
pins: 1 A, 3 K

## Diode BAT17
designator D?
Silicon RF Schottky Diode for Mixer Applications in the VHF/UHF Range; Note: Pin 2 is not connected and not drawn.; Published: 21-Mar-2003; LatestRevisionDate: 29-May-2009; LatestRevisionNote: IPC-7351 Footprint Added.; DatasheetVersion: Oct-1999; PackageVersion: Sep-2001; PackageReference: SOT-23; Publisher: Altium Limited; PackageDescription: 3-Pin SOT-23 Package 0.95 mm Pitch, 2.5 mm Lead Span; ComponentLink1Description: Manufacturer Link; ComponentLink1URL: http://www.infineon.com/; ComponentLink2Description: Datasheet; ComponentLink2URL: http://www.infineon.com/upload/Document/cmc_upload/documents/009/363/bat17series.pdf
footprint SOT-23_N (SOT23, 3-Leads, Body 2.9x1.3mm, Pitch 0.95mm, Lead Span 2.5mm, IPC Medium Density)
footprint SOT-23_L (SOT23, 3-Leads, Body 2.9x1.3mm, Pitch 0.95mm, Lead Span 2.5mm, IPC High Density)
footprint SOT-23_M (SOT23, 3-Leads, Body 2.9x1.3mm, Pitch 0.95mm, Lead Span 2.5mm, IPC Low Density)
simulation model D188 (DIODE)
pins: 1 A, 3 K

## Diode BAT18
designator D?
Low-Loss RF Switching Diode; Note: Pin 2 is not connected and not drawn.; Published: 21-Mar-2003; LatestRevisionDate: 29-May-2009; LatestRevisionNote: IPC-7351 Footprint Added.; DatasheetVersion: Oct-1999; PackageVersion: Sep-2001; PackageReference: SOT-23; Publisher: Altium Limited; PackageDescription: 3-Pin SOT-23 Package 0.95 mm Pitch, 2.5 mm Lead Span; ComponentLink1Description: Manufacturer Link; ComponentLink1URL: http://www.infineon.com/
footprint SOT-23_N (SOT23, 3-Leads, Body 2.9x1.3mm, Pitch 0.95mm, Lead Span 2.5mm, IPC Medium Density)
footprint SOT-23_L (SOT23, 3-Leads, Body 2.9x1.3mm, Pitch 0.95mm, Lead Span 2.5mm, IPC High Density)
footprint SOT-23_M (SOT23, 3-Leads, Body 2.9x1.3mm, Pitch 0.95mm, Lead Span 2.5mm, IPC Low Density)
simulation model BAT18 (DIODE)
pins: 1 A, 3 K

## Diode BBY31
designator D?
SOT23 Silicon Planar Variable Capacitance Diode; Note: Pin 2 is not connected and not drawn.; Published: 8-Jun-2000; LatestRevisionDate: 29-May-2009; LatestRevisionNote: IPC-7351 Footprint Added.; DatasheetVersion: Jan-1998; PackageVersion: 1996; PackageReference: SOT23; Publisher: Altium Limited; PackageDescription: 3-Pin SOT-23 Package 0.95 mm Pitch, 2.3 mm Lead Span - Reverse Pinning; ComponentLink1Description: Manufacturer Link; ComponentLink1URL: http://www.zetex.com/; ComponentLink2Description: Datasheet; ComponentLink2URL: www.zetex.com/3.0/pdf/BBY31.pdf
footprint SOT23_N (SOT23, 3-Leads, Body 2.9x1.3mm, Pitch 0.95mm, Lead Span 2.3mm - Reverse Pinning, IPC Medium Density)
footprint SOT23_L (SOT23, 3-Leads, Body 2.9x1.3mm, Pitch 0.95mm, Lead Span 2.3mm - Reverse Pinning, IPC High Density)
footprint SOT23_M (SOT23, 3-Leads, Body 2.9x1.3mm, Pitch 0.95mm, Lead Span 2.3mm - Reverse Pinning, IPC Low Density)
simulation model BBY31 (DIODE)
pins: 1 K, 3 A

## Diode BBY40
designator D?
SOT23 Silicon Planar Variable Capacitance Diode; Note: Pin 2 is not connected and not drawn.; Published: 8-Jun-2000; LatestRevisionDate: 29-May-2009; LatestRevisionNote: IPC-7351 Footprint Added.; DatasheetVersion: Jan-1998; PackageVersion: 1996; PackageReference: SOT23; Publisher: Altium Limited; PackageDescription: 3-Pin SOT-23 Package 0.95 mm Pitch, 2.3 mm Lead Span - Reverse Pinning; ComponentLink1Description: Manufacturer Link; ComponentLink1URL: http://www.zetex.com/; ComponentLink2Description: Datasheet; ComponentLink2URL: www.zetex.com/3.0/pdf/BBY40.pdf
footprint SOT23_N (SOT23, 3-Leads, Body 2.9x1.3mm, Pitch 0.95mm, Lead Span 2.3mm - Reverse Pinning, IPC Medium Density)
footprint SOT23_L (SOT23, 3-Leads, Body 2.9x1.3mm, Pitch 0.95mm, Lead Span 2.3mm - Reverse Pinning, IPC High Density)
footprint SOT23_M (SOT23, 3-Leads, Body 2.9x1.3mm, Pitch 0.95mm, Lead Span 2.3mm - Reverse Pinning, IPC Low Density)
simulation model BBY40 (DIODE)
pins: 1 K, 3 A

## Dpy 16-Seg
designator DS?
13.7 mm Gray Surface As AlInGaP Red Alphanumeric Display: 2-Character, CC; Published: 8-Jun-2000; LatestRevisionDate: 17-Dec-2003; LatestRevisionNote: Schematic revised, PCB Footprint replaced.; DatasheetVersion: 20-Nov-2001; PackageVersion: 20-Nov-2001; PackageReference: HDSP-A2; Publisher: Altium Limited; PackageDescription: LED, Alphanumeric Display, 13.8 mm, Dual Character; 18 Leads; Row Space 15.24 mm; Pitch 2.54 mm; Colour: As AlInGaP Red; ComponentLink1Description: Manufacturer Link; ComponentLink1URL: http://www.agilent.com/
footprint HDSP-A2 (LED, Alphanumeric Display, 13.8 mm, Dual Character; 18 Leads; Row Space 15.24 mm; Pitch 2.54 mm)
simulation model HDSP_A27C (SUBCKT)
pins: 1 e "Digits (1&2) e Anode", 2 m "Digits (1&2) m Anode", 3 NC "No Connect", 4 l "Digits (1&2) l Anode", 5 k "Digits (1&2) k Anode", 6 j "Digits (1&2) j Anode", 7 d "Digits (1&2) d Anode", 8 DP "Digit 1&2 DP Anode", 9 c "Digits (1&2) c Anode", 10 b "Digits (1&2) b Anode", 11 K2 "Digit 2 Common Cathode", 12 a "Digits (1&2) a Anode", 13 n "Digits (1&2) n Anode", 14 h "Digits (1&2) h Anode", 15 g "Digits (1&2) g Anode", 16 K1 "Digit 1 Common Cathode", 17 p "Digits (1&2) p Anode", 18 f "Digits (1&2) f Anode"
text: DIG1; DIG2; DP1; DP2

## Dpy Amber-CA
designator DS?
7.62 mm Black Surface Orange 7-Segment Display: CA, RH DP; MinimumIntensity: 354 ucd; Note: IF = 5 mA; Note: Pins 1 and 6 are redundant Anodes.; Published: 8-Jun-2000; LatestRevisionDate: 17-Dec-2003; LatestRevisionNote: Schematic revised, PCB Footprint replaced.; DatasheetVersion: 19-Feb-2002; PackageVersion: 11-Feb-2002; PackageReference: A; Publisher: Altium Limited; PackageDescription: LED, 7-Segment Display, 7.62 mm, RHD; 10 Leads; Row Space 5.08 mm; Pitch 2.54 mm; Colour: Orange; ComponentLink1Description: Manufacturer Link; ComponentLink1URL: http://www.agilent.com/
footprint A (LED, 7-Segment Display, 7.62 mm, RHD; 10 Leads; Row Space 5.08 mm; Pitch 2.54 mm)
simulation model HDSP_A211 (SUBCKT)
pins: 1 A "Anode", 2 f "Cathode", 3 g "Cathode", 4 e "Cathode", 5 d "Cathode", 6 A "Anode", 7 DP "Cathode", 8 c "Cathode", 9 b "Cathode", 10 a "Cathode"

## Dpy Amber-CC
designator DS?
7.62 mm Black Surface Orange 7-Segment Display: CC, RH DP; MinimumIntensity: 354 ucd; Note: IF = 5 mA; Note: Pins 1 and 6 are redundant Cathodes.; Published: 8-Jun-2000; LatestRevisionDate: 17-Dec-2003; LatestRevisionNote: Schematic revised, PCB Footprint replaced.; DatasheetVersion: 19-Feb-2002; PackageVersion: 11-Feb-2002; PackageReference: A; Publisher: Altium Limited; PackageDescription: LED, 7-Segment Display, 7.62 mm, RHD; 10 Leads; Row Space 5.08 mm; Pitch 2.54 mm; Colour: Orange; ComponentLink1Description: Manufacturer Link; ComponentLink1URL: http://www.agilent.com/
footprint A (LED, 7-Segment Display, 7.62 mm, RHD; 10 Leads; Row Space 5.08 mm; Pitch 2.54 mm)
simulation model HDSP_A213 (SUBCKT)
pins: 1 K "Cathode", 2 f "Anode", 3 g "Anode", 4 e "Anode", 5 d "Anode", 6 K "Cathode", 7 DP "Anode", 8 c "Anode", 9 b "Anode", 10 a "Anode"

## Dpy Blue-CA
designator DS?
14.2 mm General Purpose Blue 7-Segment Display: CA, RH DP, Gray Surface; MinimumIntensity: 2020 ucd; Note: IF = 10 mA; Published: 8-Jun-2000; LatestRevisionDate: 17-Dec-2003; LatestRevisionNote: Schematic revised, PCB Footprint replaced.; DatasheetVersion: 24-Sep-2002; PackageVersion: 24-Sep-2002; PackageReference: H; Publisher: Altium Limited; PackageDescription: LED, 7-Segment Display, 14.2 mm, RHD; 10 Leads; Row Space 15.24 mm; Pitch 2.54 mm; Colour: Blue; ComponentLink1Description: Manufacturer Link; ComponentLink1URL: http://www.agilent.com/
footprint H (LED, 7-Segment Display, 14.2 mm, RHD; 10 Leads; Row Space 15.24 mm; Pitch 2.54 mm)
simulation model HDSP_501B (SUBCKT)
pins: 1 e "Cathode", 2 d "Cathode", 3 A "Common Anode", 4 c "Cathode", 5 DP "Cathode", 6 b "Cathode", 7 a "Cathode", 8 A "Common Anode", 9 f "Cathode", 10 g "Cathode"

## Dpy Blue-CC
designator DS?
14.2 mm General Purpose Blue 7-Segment Display: CC, RH DP, Gray Surface; MinimumIntensity: 2020 ucd; Note: IF = 10 mA; Published: 8-Jun-2000; LatestRevisionDate: 17-Dec-2003; LatestRevisionNote: Schematic revised, PCB Footprint replaced.; DatasheetVersion: 24-Sep-2002; PackageVersion: 24-Sep-2002; PackageReference: H; Publisher: Altium Limited; PackageDescription: LED, 7-Segment Display, 14.2 mm, RHD; 10 Leads; Row Space 15.24 mm; Pitch 2.54 mm; Colour: Blue; ComponentLink1Description: Manufacturer Link; ComponentLink1URL: http://www.agilent.com/
footprint H (LED, 7-Segment Display, 14.2 mm, RHD; 10 Leads; Row Space 15.24 mm; Pitch 2.54 mm)
simulation model HDSP_503B (SUBCKT)
pins: 1 e "Anode", 2 d "Anode", 3 K "Common Cathode", 4 c "Anode", 5 DP "Anode", 6 b "Anode", 7 a "Anode", 8 K "Common Cathode", 9 f "Anode", 10 g "Anode"

## Dpy Green-CA
designator DS?
7.62 mm Black Surface Green 7-Segment Display: CA, RH DP; MinimumIntensity: 860 ucd; Note: IF = 10 mA; Note: Pins 1 and 6 are redundant Anodes.; Published: 8-Jun-2000; LatestRevisionDate: 17-Dec-2003; LatestRevisionNote: Schematic revised, PCB Footprint replaced.; DatasheetVersion: 19-Feb-2002; PackageVersion: 11-Feb-2002; PackageReference: A; Publisher: Altium Limited; PackageDescription: LED, 7-Segment Display, 7.62 mm, RHD; 10 Leads; Row Space 5.08 mm; Pitch 2.54 mm; Colour: Green; ComponentLink1Description: Manufacturer Link; ComponentLink1URL: http://www.agilent.com/
footprint A (LED, 7-Segment Display, 7.62 mm, RHD; 10 Leads; Row Space 5.08 mm; Pitch 2.54 mm)
simulation model HDSP_A511 (SUBCKT)
pins: 1 A "Anode", 2 f "Cathode", 3 g "Cathode", 4 e "Cathode", 5 d "Cathode", 6 A "Anode", 7 DP "Cathode", 8 c "Cathode", 9 b "Cathode", 10 a "Cathode"

## Dpy Green-CC
designator DS?
7.62 mm Black Surface Green 7-Segment Display: CC, RH DP; MinimumIntensity: 860 ucd; Note: IF = 10 mA; Note: Pins 1 and 6 are redundant Cathodes.; Published: 8-Jun-2000; LatestRevisionDate: 17-Dec-2003; LatestRevisionNote: Schematic revised, PCB Footprint replaced.; DatasheetVersion: 19-Feb-2002; PackageVersion: 11-Feb-2002; PackageReference: A; Publisher: Altium Limited; PackageDescription: LED, 7-Segment Display, 7.62 mm, RHD; 10 Leads; Row Space 5.08 mm; Pitch 2.54 mm; Colour: Green; ComponentLink1Description: Manufacturer Link; ComponentLink1URL: http://www.agilent.com/
footprint A (LED, 7-Segment Display, 7.62 mm, RHD; 10 Leads; Row Space 5.08 mm; Pitch 2.54 mm)
simulation model HDSP_A513 (SUBCKT)
pins: 1 K "Cathode", 2 f "Anode", 3 g "Anode", 4 e "Anode", 5 d "Anode", 6 K "Cathode", 7 DP "Anode", 8 c "Anode", 9 b "Anode", 10 a "Anode"

## Dpy Overflow
designator DS?
7.62 mm HER 7-Segment Display: Universal ±1 Overflow, RH DP; MinimumIntensity: 340 ucd; Note: IF = 5 mA; Colour: High Efficiency Red (HER); Note: No pins are present in positions 2 and 9.; Published: 8-Jun-2000; LatestRevisionDate: 17-Dec-2003; LatestRevisionNote: Schematic revised, PCB Footprint replaced.; DatasheetVersion: 27-Aug-2001; PackageVersion: 10-Mar-2001; PackageReference: A-12; Publisher: Altium Limited; PackageDescription: LED, Universal ±1 Overflow, 7.62 mm, RHD; 14 Leads (2 Absent); Row Space 7.62 mm; Pitch 2.54 mm; ComponentLink1Description: Manufacturer Link; ComponentLink1URL: http://www.agilent.com/
footprint A-12 (LED, Universal ±1 Overflow, 7.62 mm, RHD; 14 Leads (2 Absent); Row Space 7.62 mm; Pitch 2.54 mm)
simulation model 5082_7616 (SUBCKT)
pins: 1 d "Anode", 3 d "Cathode", 4 c "Cathode", 5 e "Cathode", 6 e "Anode", 7 c "Anode", 8 DP "Anode", 10 DP "Cathode", 11 b "Cathode", 12 a "Cathode", 13 a "Anode", 14 b "Anode"